# EAGLE library part AS-ITM-00086 (library tinycircuits)
3-axis digital magnetometer designed for low-field magnetic sensing
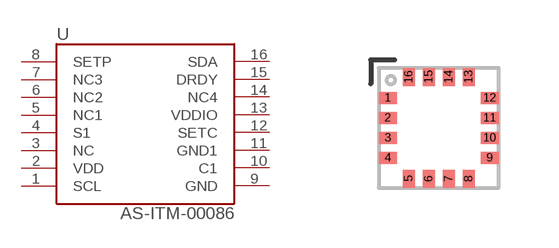
[diagram p34: symbol with the pads of HMC5883L; footprint HMC5883L]

Designator prefix U

## AS-ITM-00086 (PARTNO: AS-ITM-00086; VALUE: HMC5883L)  [HMC5883L]
1  SCL
2  VDD
3  NC
4  S1
5  NC1
6  NC2
7  NC3
8  SETP
9  GND
10  C1
11  GND1
12  SETC
13  VDDIO
14  NC4
15  DRDY
16  SDA

## Footprint HMC5883L (pad centres in mm)
smd 0.45 x 0.3: 1 -1.275,0.75; 2 -1.275,0.25; 3 -1.275,-0.25; 4 -1.275,-0.75; 9 1.275,-0.75; 10 1.275,-0.25; 11 1.275,0.25; 12 1.275,0.75
smd 0.3 x 0.45: 5 -0.75,-1.275; 6 -0.25,-1.275; 7 0.25,-1.275; 8 0.75,-1.275; 13 0.75,1.275; 14 0.25,1.275; 15 -0.25,1.275; 16 -0.75,1.275